# Altium footprint library Arbitrary-Waveform-Generator.PcbLib: 27 footprints (part 2 of 2)
Each footprint in its own frame and in the unit in brackets; x right, y up, seen from the top. Pads: shape width x height; smd on the part's side, far side on the other; paste and mask are expansions set on the pad; w line width, h text height; cw(c..) or ccw(c..) is an arc to the next point about the centre after c.
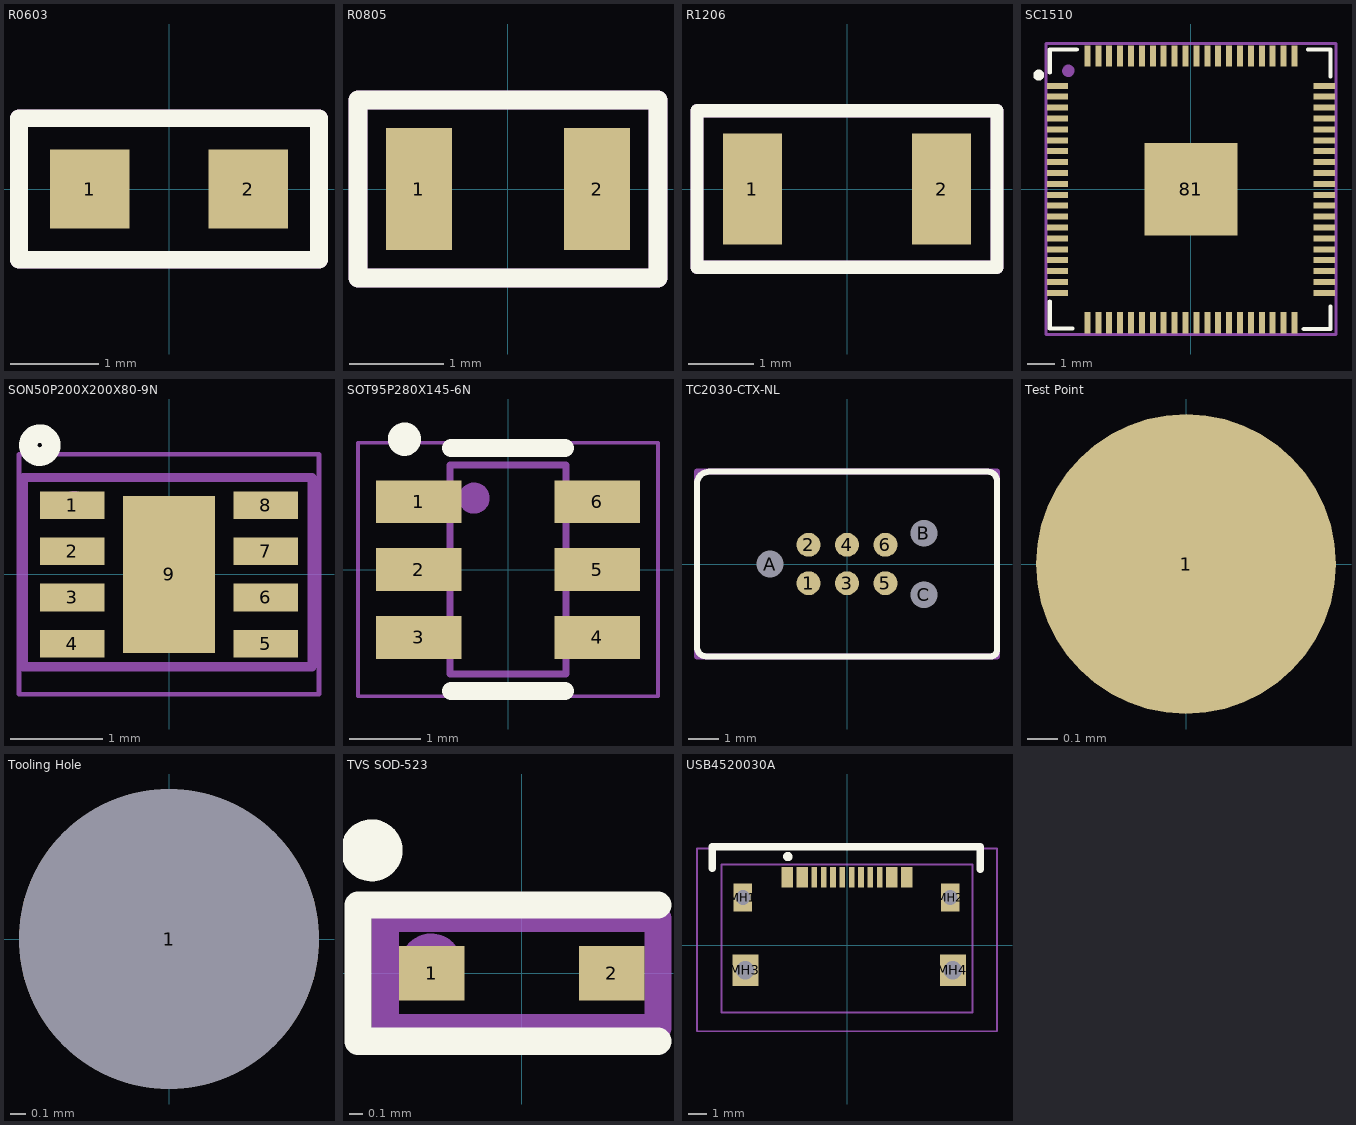
[diagram p1: the footprints below, top view; thin cyan lines are the x and y axes]

## R0603 [mm]
height 0.9
pads (2):
  rect 0.9x0.9 smd: 1(-0.9,0) 2(0.9,0)
Top Overlay:
  lines w0.2: -1.7,-0.8 1.7,-0.8 1.7,0.8 -1.7,0.8 -1.7,-0.8
Mechanical 29:
  lines w0.2: -1.7,-0.8 -1.7,0.8 1.7,0.8 1.7,-0.8 -1.7,-0.8
  text "'.Designator'" at -1.3,-0.4 h0.8
3D body "R0603.stp": height 0.46, standoff 0.01, extent -0.775,-0.4 0.775,0.4

## R0805 [mm]
pads (2):
  rect 0.7x1.3 smd: 1(-0.95,0) 2(0.95,0)
Top Overlay:
  lines w0.2: -1.6,-0.95 1.6,-0.95 1.6,0.95 -1.6,0.95 -1.6,-0.95
Mechanical 29:
  lines w0.2: -1.6,-0.95 1.6,-0.95 1.6,0.95 -1.6,0.95 -1.6,-0.95
  text "'.Designator'" at -0.6,-0.347 h0.85
3D body "R0805.step": height 0.61, standoff 0.01, extent -1,-0.6 1,0.6

## R1206 [mm]
pads (2):
  rect 0.9x1.7 smd: 1(-1.45,0) 2(1.45,0)
Top Overlay:
  lines w0.2: -2.3,-1.2 2.3,-1.2 2.3,1.2 -2.3,1.2 -2.3,-1.2
Mechanical 29:
  lines w0.2: -2.3,-1.2 -2.3,1.2 2.3,1.2 2.3,-1.2 -2.3,-1.2
  text "'.Designator'" at -1.5,-0.5 h1
3D body "R1206.stp": height 0.56, standoff 0.01, extent -1.6,-0.8 1.6,0.8

## SC1510 [mm] "IC - MCU - ARM Microcontrollers - MCU RP2350B 150MHz clock Dual Arm Cortex-M33 cores 520KB RAM 8KB on-chip QFN-80"
pads (81):
  rect 0.78x0.22 smd mask+0.03: 1(-4.896,3.8) 2(-4.896,3.4) 3(-4.896,3) 4(-4.896,2.6) 5(-4.896,2.2) 6(-4.896,1.8) 7(-4.896,1.4) 8(-4.896,1) 9(-4.896,0.6) 10(-4.896,0.2) 11(-4.896,-0.2) 12(-4.896,-0.6) 13(-4.896,-1) 14(-4.896,-1.4) 15(-4.896,-1.8) 16(-4.896,-2.2) 17(-4.896,-2.6) 18(-4.896,-3) 19(-4.896,-3.4) 20(-4.896,-3.8) 41(4.897,-3.801) 42(4.897,-3.401) 43(4.897,-3.001) 44(4.897,-2.601) 45(4.897,-2.201) 46(4.897,-1.801) 47(4.897,-1.401) 48(4.897,-1.001) 49(4.897,-0.601) 50(4.897,-0.201) 51(4.897,0.199) 52(4.897,0.599) 53(4.897,0.999) 54(4.897,1.399) 55(4.897,1.799) 56(4.897,2.199) 57(4.897,2.599) 58(4.897,3) 59(4.897,3.4) 60(4.897,3.799)
  rect 0.22x0.78 smd mask+0.03: 21(-3.8,-4.897) 22(-3.4,-4.897) 23(-3,-4.897) 24(-2.6,-4.897) 25(-2.2,-4.897) 26(-1.8,-4.897) 27(-1.4,-4.897) 28(-1,-4.897) 29(-0.6,-4.897) 30(-0.2,-4.897) 31(0.2,-4.897) 32(0.6,-4.897) 33(1,-4.897) 34(1.4,-4.897) 35(1.8,-4.897) 36(2.2,-4.897) 37(2.6,-4.897) 38(3,-4.897) 39(3.4,-4.897) 40(3.8,-4.897) 61(3.8,4.897) 62(3.4,4.897) 63(3,4.897) 64(2.6,4.897) 65(2.2,4.897) 66(1.8,4.897) 67(1.4,4.897) 68(1,4.897) 69(0.6,4.897) 70(0.2,4.897) 71(-0.2,4.897) 72(-0.6,4.897) 73(-1,4.897) 74(-1.4,4.897) 75(-1.8,4.897) 76(-2.2,4.897) 77(-2.6,4.897) 78(-3,4.897) 79(-3.4,4.897) 80(-3.8,4.897)
  rect 3.4x3.4 smd: 81(0,0)
Top Overlay:
  circle w0.2: c-5.588,4.195 r0.1
  lines w0.15: -5.182,-4.115 -5.182,-5.105 -4.347,-5.105 ; -5.182,4.296 -5.182,5.131 -4.191,5.131 ; 4.14,-5.131 5.131,-5.131 5.131,-4.296 ; 4.296,5.131 5.131,5.131 5.131,4.14
Mechanical 29:
  lines w0.1: -5.325,-5.325 5.325,-5.325 5.325,5.35 -5.325,5.35 -5.325,-5.325
  lines w0.254: -4.403,4.376 ccw(c-4.5,4.354) -4.4,4.354
  text "'.Designator'" at -0.6,-0.096 h0.8
3D body "SC1510.stp": height 0.9, standoff 0, extent -5.05,-5.046 5.05,5.054

## SON50P200X200X80-9N [mm]
pads (9):
  rect 0.7x0.3 smd mask+0.05: 1(-1.05,0.75) 2(-1.05,0.25) 3(-1.05,-0.25) 4(-1.05,-0.75) 5(1.05,-0.75) 6(1.05,-0.25) 7(1.05,0.25) 8(1.05,0.75)
  rect 1x1.7 smd mask+0.05: 9(0,0)
Top Overlay:
  circle w0.2: c-1.4,1.4 r0.125
Mechanical 15:
  lines w0.05: -1.625,-1.3 1.625,-1.3 1.625,1.3 -1.625,1.3 -1.625,-1.3
Mechanical 29:
  circle w0.254: c-1.025,0.75 r0.025
  lines w0.1: -1.575,-1 1.55,-1 1.55,1.05 -1.575,1.05 -1.575,-1
  text "'.Designator'" at -0.6,-0.096 h0.8
3D body "BQ25170DSGR.stp": height 0.77, standoff 0, extent -1,-1 1,1

## SOT95P280X145-6N [mm]
pads (6):
  rect 1.2x0.6 smd: 1(-1.25,0.95) 2(-1.25,0) 3(-1.25,-0.95) 4(1.25,-0.95) 5(1.25,0) 6(1.25,0.95)
Top Overlay:
  circle w0.254: c-1.45,1.825 r0.106
  lines w0.254: -0.8,-1.7 0.8,-1.7 ; -0.8,1.7 0.8,1.7
Mechanical 15:
  lines w0.05: -2.1,-1.775 2.1,-1.775 2.1,1.775 -2.1,1.775 -2.1,-1.775
Mechanical 29:
  circle w0.254: c-0.475,1 r0.09
  lines w0.1: -0.812,-1.462 -0.812,-0.731 -0.812,0.731 -0.812,1.462 0.812,1.462 0.812,-1.462 -0.812,-1.462
  text "'.Designator'" at -0.575,-0.05 h0.5
3D body "USBLC6-2SC6.stp": height 1.45, standoff 0, extent -1.4,-1.462 1.4,1.462

## TC2030-CTX-NL [mil]
pads (9):
  round 31 smd paste-19.68: 1(-50,-25) 2(-50,25) 3(0,-25) 4(0,25) 5(50,-25) 6(50,25)
  round 34 hole 35 unplated: A(-100,0) B(100,40) C(100,-40)
Top Overlay:
  lines w7.87: -195,-108.15 ccw(c-183.15,-108.15) -183.15,-120 187.09,-120 ccw(c187.09,-112.09) 195,-112.09 195,108.15 ccw(c183.15,108.15) 183.15,120 -179.21,120 ccw(c-179.21,104.21) -195,104.21 -195,-108.15
Mechanical 29:
  lines w7.87: -194.88,-120.08 195,-120.08 195,120.08 -194.88,120.08 -194.88,-120.08
  text "'.Designator'" at -82.68,-23.62 h33.46

## Test Point [mm]
pads (1):
  round 1 smd paste-1: 1(0,0)

## Tooling Hole [mm]
pads (1):
  round 2 hole 2 unplated: 1(0,0)

## TVS SOD-523 [mm]
pads (2):
  rect 0.48x0.4 smd: 1(-0.66,0) 2(0.66,0)
Top Overlay:
  circle w0.254: c-1.1,0.9 r0.1
  lines w0.2: 1,-0.5 -1.2,-0.5 -1.2,0.5 1,0.5
Mechanical 29:
  circle w0.254: c-0.663,0.063 r0.1
  lines w0.2: -1,-0.4 1,-0.4 1,0.4 -1,0.4 -1,-0.4
  text ".Designator" at -2.299,-0.167 h0.5
3D body "ESD5Z5.0T1G.STEP": height 0.71, standoff 0.01, extent -0.8,-0.4 0.8,0.4

## USB4520030A [mm]
pads (20):
  rect 0.3x1.1 smd mask+0.04: A1(-3.35,3.625) A4(-2.55,3.625) A5(-1.25,3.625) A6(-0.25,3.625) A7(0.25,3.625) A8(1.25,3.625) A9(2.55,3.625) A12(3.35,3.625) B1(3.05,3.625) B4(2.25,3.625) B5(1.75,3.625) B6(0.75,3.625) B7(-0.75,3.625) B8(-1.75,3.625) B9(-2.25,3.625) B12(-3.05,3.625)
  rect 1x1.5 hole 0.8 square: MH1(-5.588,2.54) MH2(5.537,2.54)
  rect 1.4x1.7 hole 1 square: MH3(-5.45,-1.35) MH4(5.675,-1.35)
Top Overlay:
  lines w0.4: -7.225,4.125 -7.225,5.275 7.15,5.275 ; 7.138,4.055 7.138,5.205 ; -3.175,4.699 ccw(c-3.175,4.749) -3.175,4.799 ccw(c-3.175,4.749) -3.175,4.699
Mechanical 15:
  lines w0.1: -8.045,-4.625 8.045,-4.625 8.045,5.175 -8.045,5.175 -8.045,-4.625
Mechanical 29:
  circle w0.2: c-3.175,3.556 r0.1
  lines w0.1: -6.731,-3.625 6.731,-3.625 6.731,4.318 -6.731,4.318 -6.731,-3.625
  text "'.Designator'" at -0.721,-0.432 h0.8
3D body "USB4520-03-0-A.stp": height 1.09, standoff -2.07, extent -5.77,-3.47 5.77,3.73